# Altium footprint library B8B-PH-K-S.PcbLib: 1 footprints
Each footprint in its own frame and in the unit in brackets; x right, y up, seen from the top. Pads: shape width x height; smd on the part's side, far side on the other; paste and mask are expansions set on the pad; w line width, h text height; cw(c..) or ccw(c..) is an arc to the next point about the centre after c.
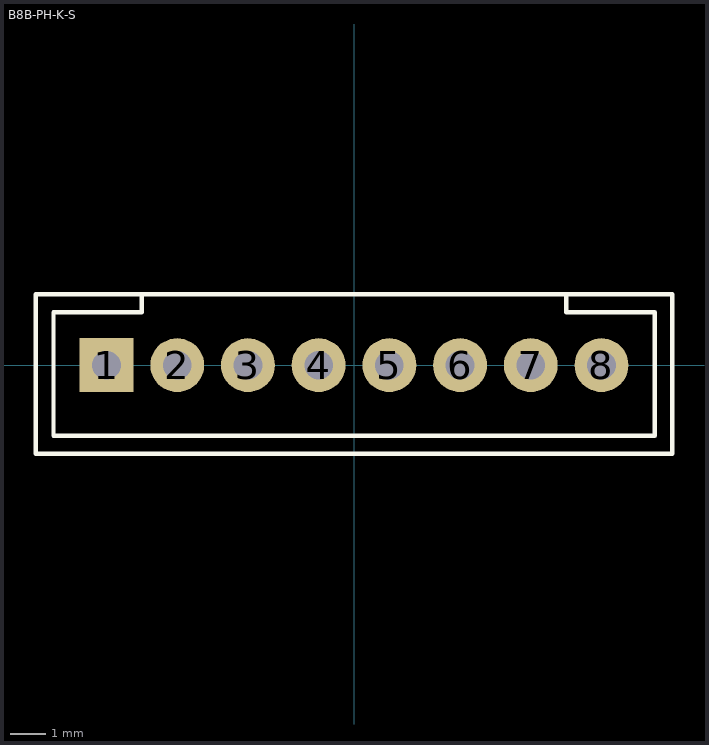
[diagram p0: the footprint, top view; thin cyan lines are the x and y axes]

## B8B-PH-K-S [mil] "PH Connector 2mm pitch, top entry"
height 236.22
pads (8):
  rect 60x60 hole 32: 1(-275.59,0)
  round 60 hole 32: 2(-196.85,0) 3(-118.11,0) 4(-39.37,0) 5(39.37,0) 6(118.11,0) 7(196.85,0) 8(275.59,0)
Top Overlay:
  lines w5: -236.22,78.74 -236.22,59.06 -334.65,59.06 -334.65,-78.74 334.65,-78.74 334.65,59.06 236.22,59.06 236.22,78.74 ; -354.33,-98.43 -354.33,78.74 354.33,78.74 354.33,-98.43 -354.33,-98.43
3D body: height 236.22, standoff 0, extent -354.31,-98.41 354.31,78.72
3D body: height 39.37, standoff 0, extent -334.63,-78.72 334.63,78.72